# EAGLE library part ILI9341 (library ILI9341)
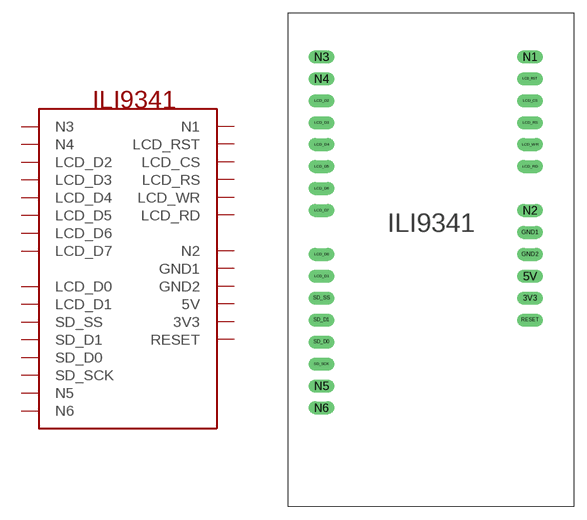
[diagram p0: symbol with the pads of ILI9341; footprint ILI9341]

Designator prefix -

## ILI9341  [ILI9341]
3V3  3V3
5V  5V
GND1  GND1
GND2  GND2
LCD_CS  LCD_CS
LCD_D0  LCD_D0
LCD_D1  LCD_D1
LCD_D2  LCD_D2
LCD_D3  LCD_D3
LCD_D4  LCD_D4
LCD_D5  LCD_D5
LCD_D6  LCD_D6
LCD_D7  LCD_D7
LCD_RD  LCD_RD
LCD_RS  LCD_RS
LCD_RST  LCD_RST
LCD_WR  LCD_WR
N1  N1
N2  N2
N3  N3
N4  N4
N5  N5
N6  N6
RESET  RESET
SD_D0  SD_D0
SD_D1  SD_D1
SD_SCK  SD_SCK
SD_SS  SD_SS

## Footprint ILI9341 (pad centres in mm)
drill 1 long: 3V3 16.51,-24.13; 5V 16.51,-21.59; GND1 16.51,-16.51; GND2 16.51,-19.05; LCD_CS 16.51,-1.27; LCD_D0 -7.62,-19.05; LCD_D1 -7.62,-21.59; LCD_D2 -7.62,-1.27; LCD_D3 -7.62,-3.81; LCD_D4 -7.62,-6.35; LCD_D5 -7.62,-8.89; LCD_D6 -7.62,-11.43; LCD_D7 -7.62,-13.97; LCD_RD 16.51,-8.89; LCD_RS 16.51,-3.81; LCD_RST 16.51,1.27; LCD_WR 16.51,-6.35; N1 16.51,3.81; N2 16.51,-13.97; N3 -7.62,3.81; N4 -7.62,1.27; N5 -7.62,-34.29; N6 -7.62,-36.83; RESET 16.51,-26.67; SD_D0 -7.62,-29.21; SD_D1 -7.62,-26.67; SD_SCK -7.62,-31.75; SD_SS -7.62,-24.13